# Altium schematic symbol library RF_Adapter.SchLib: 2 symbols
Pins are listed as number, name and electrical type; pins without a type are passive.

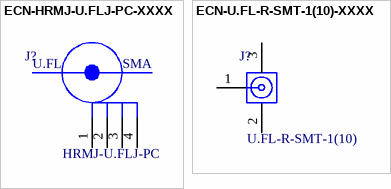
[diagram p0: symbols ECN-HRMJ-U.FLJ-PC-XXXX to ECN-U.FL-R-SMT-1(10)-XXXX]

## ECN-HRMJ-U.FLJ-PC-XXXX
designator J?, comment Manufacturer Part Number: HRMJ-U.FLJ-PC  (hidden comment: CONN ADAPT SMA JACK TO U.FL JACK)
Internal Part Number: ECN-HRMJ-U.FLJ-PC-XXXX; Manufacturer: Hirose Electric Co Ltd; Vendor Part Number: H124082-ND; 1st Auxiliary Field: SMA to U.FL (UMCC); 2nd Auxiliary Field: 50Ohm; 3rd Auxiliary Field: 6GHz; 4th Auxiliary Field: RoHS Compliant; Component Height (mm): 9.7mm; Temp Coefficient: -40°C ~ 90°C; Vendor Name: Digi-Key; Part Type: CONN ADAPT SMA JACK TO U.FL JACK
footprint HIROSE_HRMJ-U.FLJ-PC
pins: 1, 2 1, 3, 4
text: U.FL; SMA

## ECN-U.FL-R-SMT-1(10)-XXXX
designator J?, comment Manufacturer Part Number: U.FL-R-SMT-1(10)  (hidden comment: CONN U.FL RCPT STR 50 OHM SMD)
Internal Part Number: ECN-U.FL-R-SMT-1(10)-XXXX; Manufacturer: Hirose Electric Co Ltd; Vendor Part Number: H11891CT-ND; 1st Auxiliary Field: U.FL (UMCC); 3rd Auxiliary Field: 6GHz; 4th Auxiliary Field: RoHS Compliant; Component Height (mm): 1.45mm; Temp Coefficient: -40°C ~ 90°C; 2nd Auxiliary Field: 50Ohm; Vendor Name: Digi-Key; Part Type: CONN U.FL RCPT STR 50 OHM SMD
footprint HIROSE_U.FL-R-SMT-1(10)
pins: 1, 2, 3